# EAGLE library part 2QSP20-10 (library resistor-bourns)
BOURNS RESISTOR NETWORK
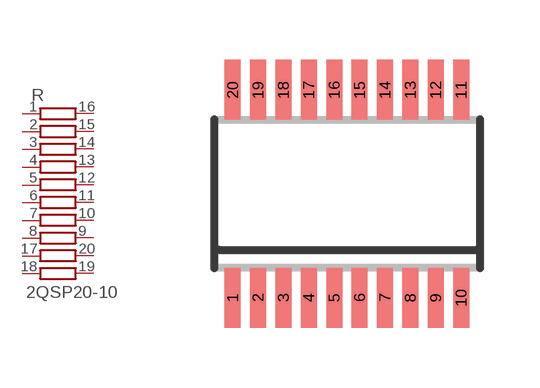
[diagram p17: symbol with the pads of 2QSP20; footprint 2QSP20]

Designator prefix R

## 2QSP20-10 (MF: BOURNS, INC.; MPN: 2QSP20-RG1-100; OC_FARNELL: unknown; OC_NEWARK: 61H1407)  [2QSP20]
1  1  pas
2  2  pas
3  3  pas
4  4  pas
5  5  pas
6  6  pas
7  7  pas
8  8  pas
9  9  pas
10  10  pas
11  11  pas
12  12  pas
13  13  pas
14  14  pas
15  15  pas
16  16  pas
17  17  pas
18  18  pas
19  31  pas
20  32  pas

## Footprint 2QSP20 (pad centres in mm)
BOURNS RESISTOR NETWORK
smd 0.4 x 1.5: 1 -2.223,-2.6; 2 -1.588,-2.6; 3 -0.953,-2.6; 4 -0.318,-2.6; 5 0.318,-2.6; 6 0.953,-2.6; 7 1.588,-2.6; 8 2.223,-2.6; 9 2.858,-2.6; 10 3.493,-2.6; 11 3.493,2.6; 12 2.858,2.6; 13 2.223,2.6; 14 1.588,2.6; 15 0.953,2.6; 16 0.318,2.6; 17 -0.318,2.6; 18 -0.953,2.6; 19 -1.588,2.6; 20 -2.223,2.6